# Altium integrated library STM32_LQFP64_DEVELOPMENT_BOARD.IntLib: 27 symbols
Pins are listed as number, name and electrical type; pins without a type are passive.

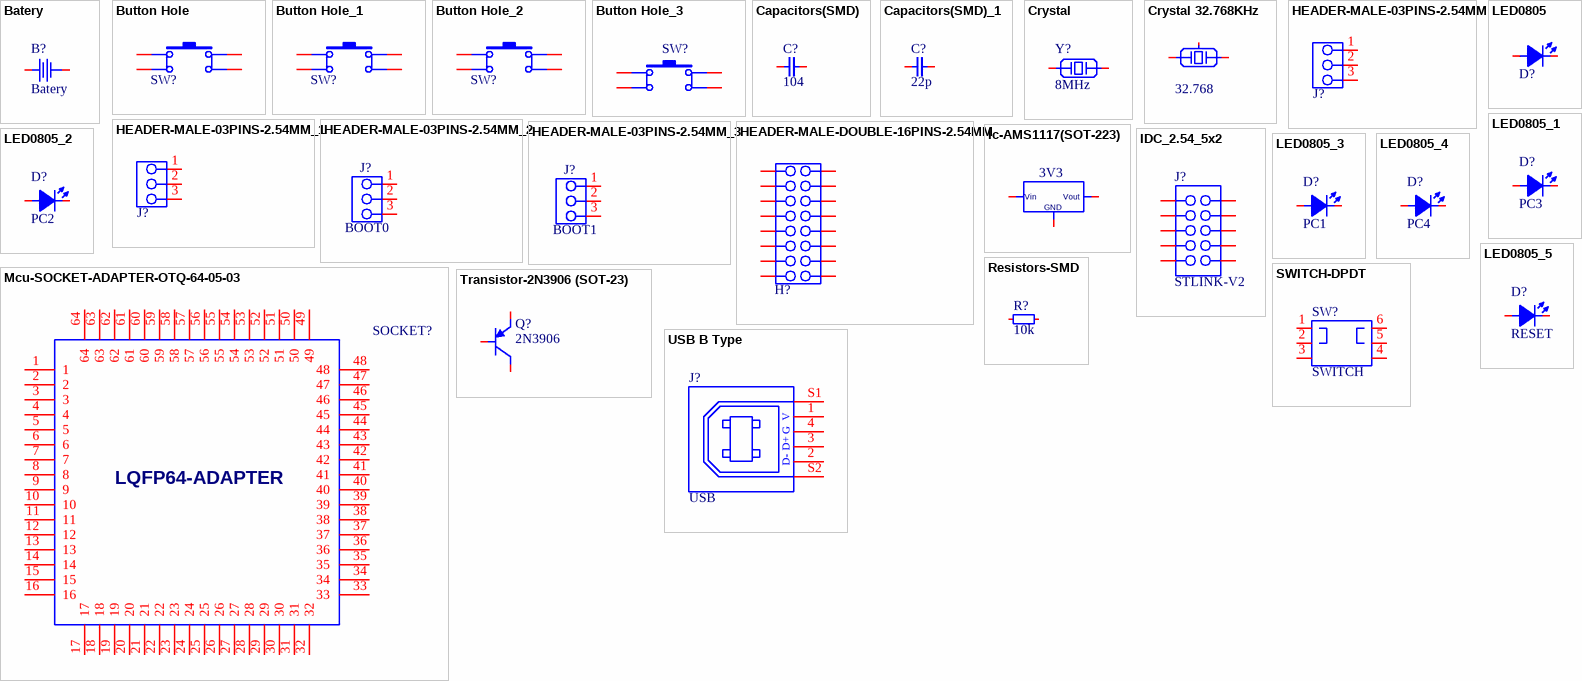
[diagram p0: symbols Batery to USB B Type]

## Batery
designator B?
footprint CR1220
pins: 1, 2

## Button Hole
designator SW?, comment PG5  (value not drawn)
footprint BUTTON_HOLE_4.3mm
pins: 1, 2, 3, 4

## Button Hole_1
designator SW?, comment PG6  (value not drawn)
footprint BUTTON_HOLE_4.3mm
pins: 1, 2, 3, 4

## Button Hole_2
designator SW?, comment PG7  (value not drawn)
footprint BUTTON_HOLE_4.3mm
pins: 1, 2, 3, 4

## Button Hole_3
designator SW?, comment RESET  (value not drawn)
footprint BUTTON_HOLE_4.3mm
pins: 1, 2, 3, 4

## Capacitors(SMD)
designator C?, comment 104
footprint C0201
footprint C0402
footprint C0603
footprint C0805
footprint C1206
footprint C1808
footprint C1812
pins: 1, 2

## Capacitors(SMD)_1
designator C?, comment 22p
footprint C0201
footprint C0402
footprint C0603
footprint C0805
footprint C1206
footprint C1808
footprint C1812
pins: 1, 2

## Crystal
designator Y?, comment 8MHz
footprint HC-49S
footprint HC-49_THROUGH
footprint SMD5032
pins: 1, 2

## Crystal 32.768KHz
designator Y?, comment 32.768
footprint DT-26
footprint CRYSTAL 32.768
pins: 1, 2, 3 GND

## HEADER-MALE-03PINS-2.54MM
designator J?, comment PIN31  (value not drawn)
footprint HEADER-MALE-03PINS-2.54MM
pins: 1, 2, 3

## HEADER-MALE-03PINS-2.54MM_1
designator J?, comment PIN47  (value not drawn)
footprint HEADER-MALE-03PINS-2.54MM
pins: 1, 2, 3

## HEADER-MALE-03PINS-2.54MM_2
designator J?, comment BOOT0
footprint HEADER-MALE-03PINS-2.54MM
pins: 1, 2, 3

## HEADER-MALE-03PINS-2.54MM_3
designator J?, comment BOOT1
footprint HEADER-MALE-03PINS-2.54MM
pins: 1, 2, 3

## HEADER-MALE-DOUBLE-16PINS-2.54MM
designator H?, comment HEADER-MALE-DOUBLE  (value not drawn)
footprint HEADER-MALE-DOUBLE-16PINS-2.54MM
pins: 1, 2, 3, 4, 5, 6, 7, 8, 9, 10, 11, 12, 13, 14, 15, 16

## Ic-AMS1117(SOT-223)
designator U?, comment 3V3
footprint SOT223-3
pins: 1, 2, 3
text: Vin; Vout; GND

## IDC_2.54_5x2
designator J?, comment STLINK-V2
footprint IDC_CONNECTOR_10x2.54
footprint TE_1-1634689-0_IDC10_RA
pins: 1, 2, 3, 4, 5, 6, 7, 8, 9, 10

## LED0805
designator D?  (value not drawn)
footprint L0805RED
pins: 1 A, 2 K

## LED0805_1
designator D?, comment PC3
footprint L0805RED
pins: 1 A, 2 K

## LED0805_2
designator D?, comment PC2
footprint L0805RED
pins: 1 A, 2 K

## LED0805_3
designator D?, comment PC1
footprint L0805RED
pins: 1 A, 2 K

## LED0805_4
designator D?, comment PC4
footprint L0805RED
pins: 1 A, 2 K

## LED0805_5
designator D?, comment RESET
footprint L0805RED
pins: 1 A, 2 K

## Mcu-SOCKET-ADAPTER-OTQ-64-05-03
designator SOCKET?, comment STM32 MICROCONTROLLER  (value not drawn)
footprint SOCKET-ADAPTER-OTQ-64-05-03
pins: 1, 2, 3, 4, 5, 6, 7, 8, 9, 10, 11, 12, 13, 14, 15, 16, 17, 18, 19, 20, 21, 22, 23, 24, 25, 26, 27, 28, 29, 30, 31, 32, 33, 34, 35, 36, 37, 38, 39, 40, 41, 42, 43, 44, 45, 46, 47, 48, 49, 50, 51, 52, 53, 54, 55, 56, 57, 58, 59, 60, 61, 62, 63, 64
text: LQFP64-ADAPTER

## Resistors-SMD
designator R?, comment 10k
footprint R0603
footprint R0805
footprint R1206
footprint R2010
footprint R2512
pins: 1, 2

## SWITCH-DPDT
designator SW?, comment SWITCH
footprint SWITCH 8.5x8.5 6 PINS
footprint SWITCH 5.8x5.8 6 PINS
pins: 1, 2, 3, 4, 5, 6

## Transistor-2N3906 (SOT-23)
designator Q?, comment 2N3906
footprint SOT23-3
pins: 1 B, 2 E, 3 C

## USB B Type
designator J?, comment USB
footprint USB-B-TYPE
pins: 1, 2, 3, 4, S1, S2
text: V; G; D+; D-